# Altium footprint library Button_Switch_SMD.PcbLib: 169 footprints (part 9 of 12)
Each footprint in its own frame and in the unit in brackets; x right, y up, seen from the top. Pads: shape width x height; smd on the part's side, far side on the other; paste and mask are expansions set on the pad; w line width, h text height; cw(c..) or ccw(c..) is an arc to the next point about the centre after c.
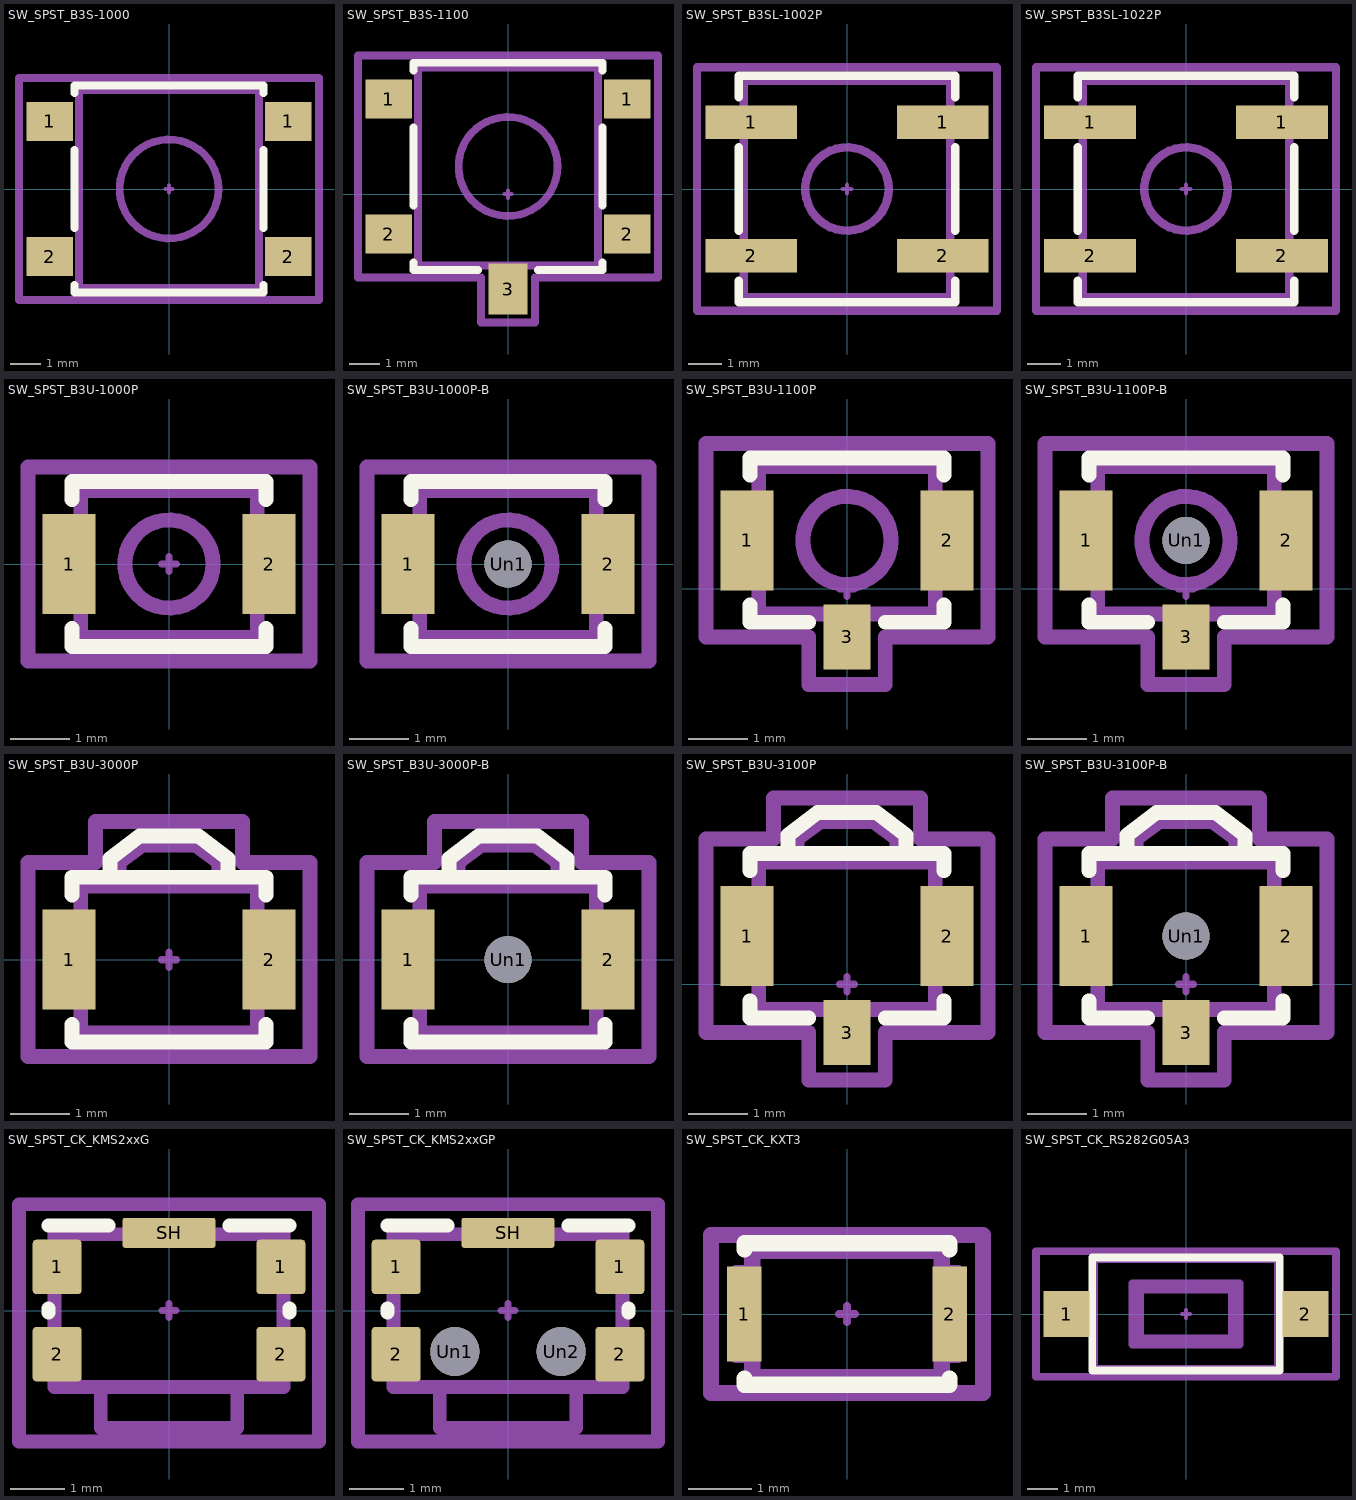
[diagram p8: the footprints below, top view; thin cyan lines are the x and y axes]

## SW_SPST_B3S-1000 [mm] "SW_SPST_B3S-1000"
pads (4):
  rect 1.55x1.3 smd: 1(-3.975,2.25) 1(3.975,2.25) 2(-3.975,-2.25) 2(3.975,-2.25)
F.SilkS:
  lines w0.254: -3.15,-3.2 -3.15,-3.45 3.15,-3.45 3.15,-3.2 ; -3.15,-1.3 -3.15,1.3 ; -3.15,3.2 -3.15,3.45 3.15,3.45 3.15,3.2 ; 3.15,-1.3 3.15,1.3
Top Component Center:
  lines w0.127: -0.127,0 0.127,0 ; 0,-0.127 0,0.127
Top Assembly:
  circle w0.254: c0,0 r1.65
  lines w0.254: -3,-3.3 -3,3.3 3,3.3 3,-3.3 -3,-3.3
Top Courtyard:
  lines w0.254: -5,-3.7 -5,3.7 5,3.7 5,-3.7 -5,-3.7
Top Designator:
  text ".Designator" at -3.432,-0.345 h1.52

## SW_SPST_B3S-1100 [mm] "SW_SPST_B3S-1100"
pads (5):
  rect 1.55x1.3 smd: 1(-3.98,3.17) 1(3.98,3.17) 2(-3.98,-1.33) 2(3.98,-1.33)
  rect 1.3x1.7 smd: 3(0,-3.17)
F.SilkS:
  lines w0.254: -3.15,-2.28 -3.15,-2.53 -1,-2.53 ; -3.15,-0.38 -3.15,2.22 ; -3.15,4.12 -3.15,4.38 3.15,4.38 3.15,4.12 ; 1,-2.53 3.15,-2.53 3.15,-2.28 ; 3.15,-0.38 3.15,2.22
Top Component Center:
  lines w0.127: -0.127,0 0.127,0 ; 0,-0.127 0,0.127
Top Assembly:
  circle w0.254: c0,0.92 r1.65
  lines w0.254: -3,-2.38 -3,4.22 3,4.22 3,-2.38 -3,-2.38
Top Courtyard:
  lines w0.254: -5,-2.78 -5,4.62 5,4.62 5,-2.78 0.9,-2.78 0.9,-4.28 -0.9,-4.28 -0.9,-2.78 -5,-2.78
Top Designator:
  text ".Designator" at -3.432,-0.345 h1.52

## SW_SPST_B3SL-1002P [mm] "SW_SPST_B3SL-1002P"
pads (4):
  rect 2.75x1 smd: 1(-2.875,2) 1(2.875,2) 2(-2.875,-2) 2(2.875,-2)
F.SilkS:
  lines w0.254: -3.25,-2.75 -3.25,-3.4 3.25,-3.4 3.25,-2.75 ; -3.25,-1.25 -3.25,1.25 ; -3.25,2.75 -3.25,3.4 3.25,3.4 3.25,2.75 ; 3.25,-1.25 3.25,1.25
Top Component Center:
  lines w0.127: -0.127,0 0.127,0 ; 0,-0.127 0,0.127
Top Assembly:
  circle w0.254: c0,0 r1.25
  lines w0.254: -3.1,-3.25 -3.1,3.25 3.1,3.25 3.1,-3.25 -3.1,-3.25
Top Courtyard:
  lines w0.254: -4.5,-3.65 -4.5,3.65 4.5,3.65 4.5,-3.65 -4.5,-3.65
Top Designator:
  text ".Designator" at -3.432,-0.345 h1.52

## SW_SPST_B3SL-1022P [mm] "SW_SPST_B3SL-1022P"
pads (4):
  rect 2.75x1 smd: 1(-2.88,2) 1(2.88,2) 2(-2.88,-2) 2(2.88,-2)
F.SilkS:
  lines w0.254: -3.25,-2.75 -3.25,-3.4 3.25,-3.4 3.25,-2.75 ; -3.25,-1.25 -3.25,1.25 ; -3.25,2.75 -3.25,3.4 3.25,3.4 3.25,2.75 ; 3.25,-1.25 3.25,1.25
Top Component Center:
  lines w0.127: -0.127,0 0.127,0 ; 0,-0.127 0,0.127
Top Assembly:
  circle w0.254: c0,0 r1.25
  lines w0.254: -3.1,-3.25 3.1,-3.25 3.1,3.25 -3.1,3.25 -3.1,-3.25
Top Courtyard:
  lines w0.254: -4.5,-3.65 4.5,-3.65 4.5,3.65 -4.5,3.65 -4.5,-3.65
Top Designator:
  text ".Designator" at -3.432,-0.345 h1.52

## SW_SPST_B3U-1000P [mm] "SW_SPST_B3U-1000P"
pads (2):
  rect 0.9x1.7 smd: 1(-1.7,0) 2(1.7,0)
F.SilkS:
  lines w0.254: -1.65,-1.1 -1.65,-1.4 1.65,-1.4 1.65,-1.1 ; -1.65,1.1 -1.65,1.4 1.65,1.4 1.65,1.1
Top Component Center:
  lines w0.127: -0.127,0 0.127,0 ; 0,-0.127 0,0.127
Top Assembly:
  circle w0.254: c0,0 r0.75
  lines w0.254: -1.5,-1.25 1.5,-1.25 1.5,1.25 -1.5,1.25 -1.5,-1.25
Top Courtyard:
  lines w0.254: -2.4,-1.65 2.4,-1.65 2.4,1.65 -2.4,1.65 -2.4,-1.65
Top Designator:
  text ".Designator" at -3.432,-0.345 h1.52
3D body "SW_SPST_B3U-1000P.step": height 1.59, standoff 0, extent -2,-1.25 2,1.25

## SW_SPST_B3U-1000P-B [mm] "SW_SPST_B3U-1000P-B"
pads (3):
  rect 0.9x1.7 smd: 1(-1.7,0) 2(1.7,0)
  round 0.8 hole 0.8: Un1(0,0)
F.SilkS:
  lines w0.254: -1.65,-1.1 -1.65,-1.4 1.65,-1.4 1.65,-1.1 ; -1.65,1.1 -1.65,1.4 1.65,1.4 1.65,1.1
Top Component Center:
  lines w0.127: -0.127,0 0.127,0 ; 0,-0.127 0,0.127
Top Assembly:
  circle w0.254: c0,0 r0.75
  lines w0.254: -1.5,-1.25 -1.5,1.25 1.5,1.25 1.5,-1.25 -1.5,-1.25
Top Courtyard:
  lines w0.254: -2.4,-1.65 -2.4,1.65 2.4,1.65 2.4,-1.65 -2.4,-1.65
Top Designator:
  text ".Designator" at -3.559,0.417 h1.52
3D body "SW_SPST_B3U-1000P-B.step": height 1.59, standoff -0.5, extent -2,-1.25 2,1.25

## SW_SPST_B3U-1100P [mm] "SW_SPST_B3U-1100P"
pads (3):
  rect 0.9x1.7 smd: 1(-1.7,0.82) 2(1.7,0.82)
  rect 0.8x1.1 smd: 3(0,-0.82)
F.SilkS:
  lines w0.254: -1.65,-0.28 -1.65,-0.57 -0.65,-0.57 ; -1.65,1.93 -1.65,2.22 1.65,2.22 1.65,1.93 ; 0.65,-0.57 1.65,-0.57 1.65,-0.28
Top Component Center:
  lines w0.127: -0.127,0 0.127,0 ; 0,-0.127 0,0.127
Top Assembly:
  circle w0.254: c0,0.82 r0.75
  lines w0.254: -1.5,-0.43 -1.5,2.08 1.5,2.08 1.5,-0.43 -1.5,-0.43
Top Courtyard:
  lines w0.254: -2.4,-0.82 -2.4,2.47 2.4,2.47 2.4,-0.82 0.65,-0.82 0.65,-1.63 -0.65,-1.63 -0.65,-0.82 -2.4,-0.82
Top Designator:
  text ".Designator" at -3.432,0.544 h1.52

## SW_SPST_B3U-1100P-B [mm] "SW_SPST_B3U-1100P-B"
pads (4):
  rect 0.9x1.7 smd: 1(-1.7,0.82) 2(1.7,0.82)
  rect 0.8x1.1 smd: 3(0,-0.82)
  round 0.8 hole 0.8: Un1(0,0.82)
F.SilkS:
  lines w0.254: -1.65,-0.28 -1.65,-0.57 -0.65,-0.57 ; -1.65,1.93 -1.65,2.22 1.65,2.22 1.65,1.93 ; 0.65,-0.57 1.65,-0.57 1.65,-0.28
Top Component Center:
  lines w0.127: -0.127,0 0.127,0 ; 0,-0.127 0,0.127
Top Assembly:
  circle w0.254: c0,0.82 r0.75
  lines w0.254: -1.5,-0.43 -1.5,2.08 1.5,2.08 1.5,-0.43 -1.5,-0.43
Top Courtyard:
  lines w0.254: -2.4,-0.82 -2.4,2.47 2.4,2.47 2.4,-0.82 0.65,-0.82 0.65,-1.63 -0.65,-1.63 -0.65,-0.82 -2.4,-0.82
Top Designator:
  text ".Designator" at -3.559,1.306 h1.52

## SW_SPST_B3U-3000P [mm] "SW_SPST_B3U-3000P"
pads (2):
  rect 0.9x1.7 smd: 1(-1.7,0) 2(1.7,0)
F.SilkS:
  lines w0.254: -1.65,-1.1 -1.65,-1.4 1.65,-1.4 1.65,-1.1 ; -1.65,1.1 -1.65,1.4 1.65,1.4 1.65,1.1 ; -1,1.4 -1,1.72 -0.5,2.1 0.5,2.1 1,1.72 1,1.4
Top Component Center:
  lines w0.127: -0.127,0 0.127,0 ; 0,-0.127 0,0.127
Top Assembly:
  lines w0.254: -0.85,1.25 -0.85,1.65 -0.45,1.95 0.45,1.95 0.85,1.65 0.85,1.25 ; -1.5,-1.25 -1.5,1.25 1.5,1.25 1.5,-1.25 -1.5,-1.25
Top Courtyard:
  lines w0.254: -2.4,-1.65 -2.4,1.65 -1.25,1.65 -1.25,2.35 1.25,2.35 1.25,1.65 2.4,1.65 2.4,-1.65 -2.4,-1.65
Top Designator:
  text ".Designator" at -2.253,-0.226 h1
3D body "SW_SPST_B3U-1000P.step": height 1.59, standoff 0, extent -2,-1.25 2,1.25

## SW_SPST_B3U-3000P-B [mm] "SW_SPST_B3U-3000P-B"
pads (3):
  rect 0.9x1.7 smd: 1(-1.7,0) 2(1.7,0)
  round 0.8 hole 0.8: Un1(0,0)
F.SilkS:
  lines w0.254: -1.65,-1.1 -1.65,-1.4 1.65,-1.4 1.65,-1.1 ; -1.65,1.1 -1.65,1.4 1.65,1.4 1.65,1.1 ; -1,1.4 -1,1.72 -0.5,2.1 0.5,2.1 1,1.72 1,1.4
Top Component Center:
  lines w0.127: -0.127,0 0.127,0 ; 0,-0.127 0,0.127
Top Assembly:
  lines w0.254: -0.85,1.25 -0.85,1.65 -0.45,1.95 0.45,1.95 0.85,1.65 0.85,1.25 ; -1.5,-1.25 1.5,-1.25 1.5,1.25 -1.5,1.25 -1.5,-1.25
Top Courtyard:
  lines w0.254: -2.4,-1.65 2.4,-1.65 2.4,1.65 1.25,1.65 1.25,2.35 -1.25,2.35 -1.25,1.65 -2.4,1.65 -2.4,-1.65
Top Designator:
  text ".Designator" at -3.582,0.495 h1.52

## SW_SPST_B3U-3100P [mm] "SW_SPST_B3U-3100P"
pads (3):
  rect 0.9x1.7 smd: 1(-1.7,0.82) 2(1.7,0.82)
  rect 0.8x1.1 smd: 3(0,-0.82)
F.SilkS:
  lines w0.254: -1.65,-0.28 -1.65,-0.57 -0.65,-0.57 ; -1.65,1.93 -1.65,2.22 1.65,2.22 1.65,1.93 ; -1,2.22 -1,2.54 -0.5,2.92 0.5,2.92 1,2.54 1,2.22 ; 0.65,-0.57 1.65,-0.57 1.65,-0.28
Top Component Center:
  lines w0.127: -0.127,0 0.127,0 ; 0,-0.127 0,0.127
Top Assembly:
  lines w0.254: -0.85,2.08 -0.85,2.47 -0.45,2.77 0.45,2.77 0.85,2.47 0.85,2.08 ; -1.5,-0.43 1.5,-0.43 1.5,2.08 -1.5,2.08 -1.5,-0.43
Top Courtyard:
  lines w0.254: -2.4,-0.82 -0.65,-0.82 -0.65,-1.63 0.65,-1.63 0.65,-0.82 2.4,-0.82 2.4,2.47 1.25,2.47 1.25,3.17 -1.25,3.17 -1.25,2.47 -2.4,2.47 -2.4,-0.82
Top Designator:
  text ".Designator" at -3.559,0.671 h1.52

## SW_SPST_B3U-3100P-B [mm] "SW_SPST_B3U-3100P-B"
pads (4):
  rect 0.9x1.7 smd: 1(-1.7,0.82) 2(1.7,0.82)
  rect 0.8x1.1 smd: 3(0,-0.82)
  round 0.8 hole 0.8: Un1(0,0.82)
F.SilkS:
  lines w0.254: -1.65,-0.28 -1.65,-0.57 -0.65,-0.57 ; -1.65,1.93 -1.65,2.22 1.65,2.22 1.65,1.93 ; -1,2.22 -1,2.54 -0.5,2.92 0.5,2.92 1,2.54 1,2.22 ; 0.65,-0.57 1.65,-0.57 1.65,-0.28
Top Component Center:
  lines w0.127: -0.127,0 0.127,0 ; 0,-0.127 0,0.127
Top Assembly:
  lines w0.254: -0.85,2.08 -0.85,2.47 -0.45,2.77 0.45,2.77 0.85,2.47 0.85,2.08 ; -1.5,-0.43 -1.5,2.08 1.5,2.08 1.5,-0.43 -1.5,-0.43
Top Courtyard:
  lines w0.254: -2.4,-0.82 -2.4,2.47 -1.25,2.47 -1.25,3.17 1.25,3.17 1.25,2.47 2.4,2.47 2.4,-0.82 0.65,-0.82 0.65,-1.63 -0.65,-1.63 -0.65,-0.82 -2.4,-0.82
Top Designator:
  text ".Designator" at -3.559,1.306 h1.52

## SW_SPST_CK_KMS2xxG [mm] "SW_SPST_CK_KMS2xxG"
pads (5):
  rrect15% 0.9x1 smd: 1(-2.05,0.8) 1(2.05,0.8) 2(-2.05,-0.8) 2(2.05,-0.8)
  rrect15% 1.7x0.55 smd: SH(0,1.425)
F.SilkS:
  lines w0.254: -2.21,-0.04 -2.21,0.04 ; -2.21,1.56 -1.11,1.56 ; 1.11,1.56 2.21,1.56 ; 2.21,-0.04 2.21,0.04
Top Component Center:
  lines w0.127: -0.127,0 0.127,0 ; 0,-0.127 0,0.127
Top Assembly:
  lines w0.254: -1.25,-1.4 -1.25,-2.15 1.25,-2.15 1.25,-1.4 ; -2.1,-1.4 -2.1,1.4 2.1,1.4 2.1,-1.4 -2.1,-1.4
Top Courtyard:
  lines w0.254: -2.75,-2.4 -2.75,1.95 2.75,1.95 2.75,-2.4 -2.75,-2.4
Top Designator:
  text ".Designator" at -3.432,-0.345 h1.52

## SW_SPST_CK_KMS2xxGP [mm] "SW_SPST_CK_KMS2xxGP"
pads (7):
  rrect15% 0.9x1 smd: 1(-2.05,0.8) 1(2.05,0.8) 2(-2.05,-0.8) 2(2.05,-0.8)
  rrect15% 1.7x0.55 smd: SH(0,1.425)
  round 0.9 hole 0.9: Un1(-0.975,-0.75) Un2(0.975,-0.75)
F.SilkS:
  lines w0.254: -2.21,-0.04 -2.21,0.04 ; -2.21,1.56 -1.11,1.56 ; 1.11,1.56 2.21,1.56 ; 2.21,-0.04 2.21,0.04
Top Component Center:
  lines w0.127: -0.127,0 0.127,0 ; 0,-0.127 0,0.127
Top Assembly:
  lines w0.254: -1.25,-1.4 -1.25,-2.15 1.25,-2.15 1.25,-1.4 ; -2.1,-1.4 -2.1,1.4 2.1,1.4 2.1,-1.4 -2.1,-1.4
Top Courtyard:
  lines w0.254: -2.75,-2.4 -2.75,1.95 2.75,1.95 2.75,-2.4 -2.75,-2.4
Top Designator:
  text ".Designator" at -3.432,-0.345 h1.52

## SW_SPST_CK_KXT3 [mm] "SW_SPST_CK_KXT3"
pads (2):
  rect 0.55x1.5 smd: 1(-1.625,0) 2(1.625,0)
F.SilkS:
  lines w0.254: -1.62,-1.02 -1.62,-1.12 1.62,-1.12 1.62,-1.02 ; -1.62,1.02 -1.62,1.12 1.62,1.12 1.62,1.02
Top Component Center:
  lines w0.127: -0.127,0 0.127,0 ; 0,-0.127 0,0.127
Top Assembly:
  lines w0.254: -1.5,-0.65 -1.75,-0.65 -1.75,-0.4 -1.5,-0.15 ; -1.5,0.15 -1.75,0.4 -1.75,0.65 -1.5,0.65 ; 1.5,-0.65 1.75,-0.65 1.75,-0.4 1.5,-0.15 ; 1.5,0.15 1.75,0.4 1.75,0.65 1.5,0.65 ; -1.5,-1 1.5,-1 1.5,1 -1.5,1 -1.5,-1
Top Courtyard:
  lines w0.254: -2.15,-1.25 2.15,-1.25 2.15,1.25 -2.15,1.25 -2.15,-1.25
Top Designator:
  text ".Designator" at -3.432,-0.345 h1.52

## SW_SPST_CK_RS282G05A3 [mm] "SW_SPST_CK_RS282G05A3"
pads (2):
  rect 1.5x1.5 smd: 1(-3.9,0) 2(3.9,0)
F.SilkS:
  lines w0.254: -3.06,-1.85 -3.06,1.85 3.06,1.85 3.06,-1.85 -3.06,-1.85
Top Component Center:
  lines w0.127: -0.127,0 0.127,0 ; 0,-0.127 0,0.127
Top Assembly:
  lines w0.254: -3,-1.8 -3,1.8 3,1.8 3,-1.8 -3,-1.8 ; -1.75,-1 -1.75,1 1.75,1 1.75,-1 -1.75,-1 ; -1.5,-0.8 -1.5,0.8 1.5,0.8 1.5,-0.8 -1.5,-0.8
Top Courtyard:
  lines w0.254: -4.9,-2.05 -4.9,2.05 4.9,2.05 4.9,-2.05 -4.9,-2.05
Top Designator:
  text ".Designator" at -3.432,-0.345 h1.52
3D body "SW_SPST_CK_RS282G05A3.step": height 2.5, standoff 0, extent -4,-1.75 4,1.75